# Altium integrated library Analog Devices Switches and Multiplexers Multiplexers (Muxes).IntLib: 481 symbols (part 11 of 23)
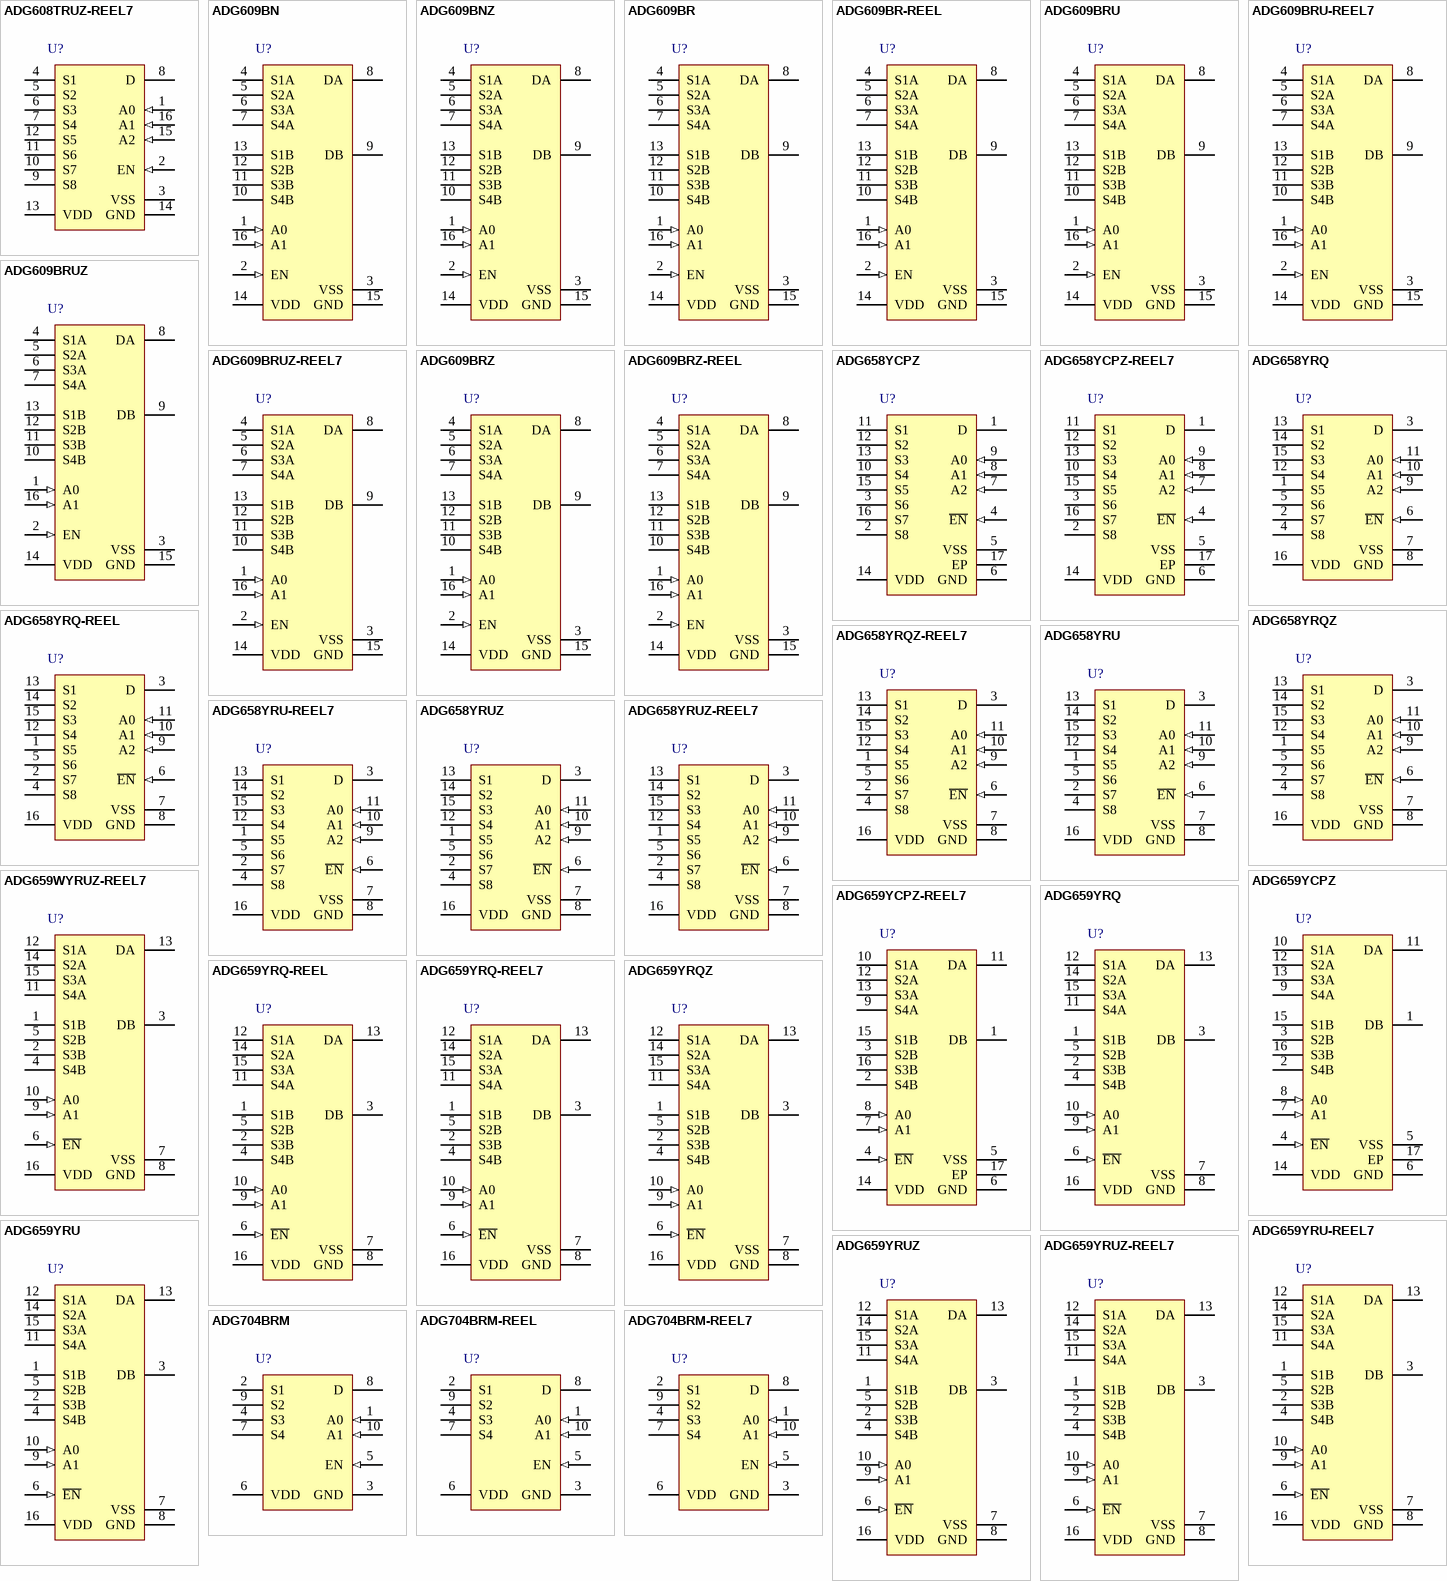
[diagram p27: symbols ADG608TRUZ-REEL7 to ADG704BRM-REEL7]

## ADG658YRUZ
designator U?
3 V / 5 V / +/-5 V CMOS 8-Channel Analog Multiplexer, -40 to 125 degC, 16-pin SOP (RU-16), Tube; Manufacturer: Analog Devices; PartNumber: ADG658YRUZ; Bandwidth (Hz): 210M; Max Analog Signal Range: Vss to Vdd; Ron (ohms): 45; Supply V Guar Performance: Dual_(+/-5V), Single_(+3.3V), Single_(+3V), Single_(+5V); t transition (s): 80n; DatasheetVersion: Rev. B; PackageVersion: Nov-02; PackageReference: RU-16; PackageDescription: 16-Pin Thin Shrink Small Outline Package, Body 5 x 4.4 mm, Pitch 0.65 mm; Supplier 1: Digi-Key; Supplier Part Number 1: ADG658YRUZ-ND; Supplier 2: Farnell; Supplier Part Number 2: 1438947; Supplier 3: Newark; Supplier Part Number 3: 19M8665; Supplier 4: Mouser; Supplier Part Number 4: 584-ADG658YRUZ; Packing: Tube; Mounting Technology: Surface Mount; Code_JEDEC: MO-153AB; ComponentLink1Description: Manufacturer URL; ComponentLink1URL: http://www.analog.com/en/index.html; ComponentLink2Description: Datasheet; ComponentLink2URL: http://www.analog.com/static/imported-files/data_sheets/ADG658_659.pdf; ComponentLink3Description: Package Specification; ComponentLink3URL: http:/www.analog.com/static/imported-files/packages/36244347913743854010197452789RU16.pdf
footprint ADI-RU-16_N (SOP, 16-Leads, Body 5x4.4mm, Pitch 0.65mm, IPC Medium Density)
footprint ADI-RU-16_L (SOP, 16-Leads, Body 5x4.4mm, Pitch 0.65mm, IPC High Density)
footprint ADI-RU-16_M (SOP, 16-Leads, Body 5x4.4mm, Pitch 0.65mm, IPC Low Density)
pins: 1 S5 "Source Terminal. May be an input or output.", 2 S7 "Source Terminal. May be an input or output.", 3 D "Drain Terminal. May be an input or output.", 4 S8 "Source Terminal. May be an input or output.", 5 S6 "Source Terminal. May be an input or output.", 6 ~{EN} (in) "Active Low Digital Input. When high, device is disabled and all switches are OFF. When low, AX logic inputs determine ON switch.", 7 VSS (power) "Most Negative Power Supply Potential.", 8 GND (power) "Ground (0 V) Reference.", 9 A2 (in) "Logic Control Input.", 10 A1 (in) "Logic Control Input.", 11 A0 (in) "Logic Control Input.", 12 S4 "Source Terminal. May be an input or output.", 13 S1 "Source Terminal. May be an input or output.", 14 S2 "Source Terminal. May be an input or output.", 15 S3 "Source Terminal. May be an input or output.", 16 VDD (power) "Most Positive Power Supply Potential."

## ADG658YRUZ-REEL7
designator U?
3 V / 5 V / +/-5 V CMOS 8-Channel Analog Multiplexer, -40 to 125 degC, 16-pin SOP (RU-16), Reel; Manufacturer: Analog Devices; PartNumber: ADG658YRUZ-REEL7; Bandwidth (Hz): 210M; Max Analog Signal Range: Vss to Vdd; Ron (ohms): 45; Supply V Guar Performance: Dual_(+/-5V), Single_(+3.3V), Single_(+3V), Single_(+5V); t transition (s): 80n; DatasheetVersion: Rev. B; PackageVersion: Nov-02; PackageReference: RU-16; PackageDescription: 16-Pin Thin Shrink Small Outline Package, Body 5 x 4.4 mm, Pitch 0.65 mm; Supplier 1: Digi-Key; Supplier Part Number 1: ADG658YRUZ-REEL7TR-ND; Supplier 2: Digi-Key; Supplier Part Number 2: ADG658YRUZ-REEL7CT-ND; Supplier 3: Digi-Key; Supplier Part Number 3: ADG658YRUZ-REEL7DKR-ND; Supplier 4: Newark; Supplier Part Number 4: 59K1459; Supplier 5: Mouser; Supplier Part Number 5: 584-ADG658YRUZ-R7; Packing: Reel; Mounting Technology: Surface Mount; Code_JEDEC: MO-153AB; ComponentLink1Description: Manufacturer URL; ComponentLink1URL: http://www.analog.com/en/index.html; ComponentLink2Description: Datasheet; ComponentLink2URL: http://www.analog.com/static/imported-files/data_sheets/ADG658_659.pdf; ComponentLink3Description: Package Specification; ComponentLink3URL: http:/www.analog.com/static/imported-files/packages/36244347913743854010197452789RU16.pdf
footprint ADI-RU-16_N (SOP, 16-Leads, Body 5x4.4mm, Pitch 0.65mm, IPC Medium Density)
footprint ADI-RU-16_L (SOP, 16-Leads, Body 5x4.4mm, Pitch 0.65mm, IPC High Density)
footprint ADI-RU-16_M (SOP, 16-Leads, Body 5x4.4mm, Pitch 0.65mm, IPC Low Density)
pins: 1 S5 "Source Terminal. May be an input or output.", 2 S7 "Source Terminal. May be an input or output.", 3 D "Drain Terminal. May be an input or output.", 4 S8 "Source Terminal. May be an input or output.", 5 S6 "Source Terminal. May be an input or output.", 6 ~{EN} (in) "Active Low Digital Input. When high, device is disabled and all switches are OFF. When low, AX logic inputs determine ON switch.", 7 VSS (power) "Most Negative Power Supply Potential.", 8 GND (power) "Ground (0 V) Reference.", 9 A2 (in) "Logic Control Input.", 10 A1 (in) "Logic Control Input.", 11 A0 (in) "Logic Control Input.", 12 S4 "Source Terminal. May be an input or output.", 13 S1 "Source Terminal. May be an input or output.", 14 S2 "Source Terminal. May be an input or output.", 15 S3 "Source Terminal. May be an input or output.", 16 VDD (power) "Most Positive Power Supply Potential."

## ADG659WYRUZ-REEL7
designator U?
3 V / 5 V / +/-5 V CMOS 4-Channel Analog Multiplexer, -40 to 125 degC, 16-pin SOP (RU-16), Reel; Manufacturer: Analog Devices; PartNumber: ADG659WYRUZ-REEL7; Bandwidth (Hz): 400M; Max Analog Signal Range: Vss to Vdd; Ron (ohms): 45; Supply V Guar Performance: Dual_(+/-5V), Single_(+3.3V), Single_(+3V), Single_(+5V); t transition (s): 80n; DatasheetVersion: Rev. B; PackageVersion: Nov-02; PackageReference: RU-16; PackageDescription: 16-Pin Thin Shrink Small Outline Package, Body 5 x 4.4 mm, Pitch 0.65 mm; Supplier 1: Digi-Key; Supplier Part Number 1: ADG659WYRUZ-REEL7TR-ND; Supplier 2: Digi-Key; Supplier Part Number 2: ADG659WYRUZ-REEL7CT-ND; Supplier 3: Digi-Key; Supplier Part Number 3: ADG659WYRUZ-REEL7DKR-ND; Supplier 4: Mouser; Supplier Part Number 4: 584-ADG659WYRUZ-R7; Packing: Reel; Mounting Technology: Surface Mount; Code_JEDEC: MO-153AB; ComponentLink1Description: Manufacturer URL; ComponentLink1URL: http://www.analog.com/en/index.html; ComponentLink2Description: Datasheet; ComponentLink2URL: http://www.analog.com/static/imported-files/data_sheets/ADG658_659.pdf; ComponentLink3Description: Package Specification; ComponentLink3URL: http:/www.analog.com/static/imported-files/packages/36244347913743854010197452789RU16.pdf
footprint ADI-RU-16_N (SOP, 16-Leads, Body 5x4.4mm, Pitch 0.65mm, IPC Medium Density)
footprint ADI-RU-16_L (SOP, 16-Leads, Body 5x4.4mm, Pitch 0.65mm, IPC High Density)
footprint ADI-RU-16_M (SOP, 16-Leads, Body 5x4.4mm, Pitch 0.65mm, IPC Low Density)
pins: 1 S1B "Source Terminal. May be an input or output.", 2 S3B "Source Terminal. May be an input or output.", 3 DB "Drain Terminal. May be an input or output.", 4 S4B "Source Terminal. May be an input or output.", 5 S2B "Source Terminal. May be an input or output.", 6 ~{EN} (in) "Active Low Digital Input. When high, device is disabled and all switches are OFF. When low, AX logic inputs determine ON switch.", 7 VSS (power) "Most Negative Power Supply Potential.", 8 GND (power) "Ground (0 V) Reference.", 9 A1 (in) "Logic Control Input.", 10 A0 (in) "Logic Control Input.", 11 S4A "Source Terminal. May be an input or output.", 12 S1A "Source Terminal. May be an input or output.", 13 DA "Drain Terminal. May be an input or output.", 14 S2A "Source Terminal. May be an input or output.", 15 S3A "Source Terminal. May be an input or output.", 16 VDD (power) "Most Positive Power Supply Potential."

## ADG659YCPZ
designator U?
3 V / 5 V / +/-5 V CMOS 4-Channel Analog Multiplexer, -40 to 85 degC, 16-pin QFN (CP-16-4), Tray; Manufacturer: Analog Devices; PartNumber: ADG659YCPZ; Bandwidth (Hz): 400M; Max Analog Signal Range: Vss to Vdd; Ron (ohms): 45; Supply V Guar Performance: Dual_(+/-5V), Single_(+3.3V), Single_(+3V), Single_(+5V); t transition (s): 80n; DatasheetVersion: Rev. B; PackageVersion: 010606-0, 01/2006; PackageReference: CP-16-4; PackageDescription: 16-Pin Lead Frame Chip Scale Package, Body 4 x 4 mm, Pitch 0.65 mm; Supplier 1: Digi-Key; Supplier Part Number 1: ADG659YCPZ-ND; Supplier 2: Newark; Supplier Part Number 2: 74R5857; Supplier 3: Mouser; Supplier Part Number 3: 584-ADG659YCPZ; Packing: Tray; Mounting Technology: Surface Mount; Code_JEDEC: MO-220-VGGC; ComponentLink1Description: Manufacturer URL; ComponentLink1URL: http://www.analog.com/en/index.html; ComponentLink2Description: Datasheet; ComponentLink2URL: http://www.analog.com/static/imported-files/data_sheets/ADG658_659.pdf; ComponentLink3Description: Package Specification; ComponentLink3URL: http://www.analog.com/static/imported-files/packages/46009454504174339653421710019CP_16_4.pdf
footprint CP-16-4_N (QFN, 16-Leads, Body 4x4mm, Pitch 0.65mm, Thermal Pad 2.1x2.1mm, IPC Medium Density)
footprint CP-16-4_L (QFN, 16-Leads, Body 4x4mm, Pitch 0.65mm, Thermal Pad 2.1x2.1mm, IPC High Density)
footprint CP-16-4_M (QFN, 16-Leads, Body 4x4mm, Pitch 0.65mm, Thermal Pad 2.1x2.1mm, IPC Low Density)
pins: 1 DB "Drain Terminal. May be an input or output.", 2 S4B "Source Terminal. May be an input or output", 3 S2B "Source Terminal. May be an input or output", 4 ~{EN} (in) "Active Low Digital Input. When high, device is disabled and all switches are OFF. When low, AX logic inputs determine ON switch.", 5 VSS (power) "Most Negative Power Supply Potential.", 6 GND (power) "Ground (0 V) Reference.", 7 A1 (in) "Logic Control Input", 8 A0 (in) "Logic Control Input", 9 S4A "Source Terminal. May be an input or output", 10 S1A "Source Terminal. May be an input or output", 11 DA "Drain Terminal. May be an input or output.", 12 S2A "Source Terminal. May be an input or output", 13 S3A "Source Terminal. May be an input or output", 14 VDD (power) "Most Positive Power Supply Potential.", 15 S1B "Source Terminal. May be an input or output", 16 S3B "Source Terminal. May be an input or output", 17 EP "Exposed pad."

## ADG659YCPZ-REEL7
designator U?
3 V / 5 V / +/-5 V CMOS 4-Channel Analog Multiplexer, -40 to 85 degC, 16-pin QFN (CP-16-4), Reel; Manufacturer: Analog Devices; PartNumber: ADG659YCPZ-REEL7; Bandwidth (Hz): 400M; Max Analog Signal Range: Vss to Vdd; Ron (ohms): 45; Supply V Guar Performance: Dual_(+/-5V), Single_(+3.3V), Single_(+3V), Single_(+5V); t transition (s): 80n; DatasheetVersion: Rev. B; PackageVersion: 010606-0, 01/2006; PackageReference: CP-16-4; PackageDescription: 16-Pin Lead Frame Chip Scale Package, Body 4 x 4 mm, Pitch 0.65 mm; Supplier 1: Digi-Key; Supplier Part Number 1: ADG659YCPZ-REEL7-ND; Supplier 2: Mouser; Supplier Part Number 2: 584-ADG659YCPZ-R7; Packing: Reel; Mounting Technology: Surface Mount; Code_JEDEC: MO-220-VGGC; ComponentLink1Description: Manufacturer URL; ComponentLink1URL: http://www.analog.com/en/index.html; ComponentLink2Description: Datasheet; ComponentLink2URL: http://www.analog.com/static/imported-files/data_sheets/ADG658_659.pdf; ComponentLink3Description: Package Specification; ComponentLink3URL: http://www.analog.com/static/imported-files/packages/46009454504174339653421710019CP_16_4.pdf
footprint CP-16-4_N (QFN, 16-Leads, Body 4x4mm, Pitch 0.65mm, Thermal Pad 2.1x2.1mm, IPC Medium Density)
footprint CP-16-4_L (QFN, 16-Leads, Body 4x4mm, Pitch 0.65mm, Thermal Pad 2.1x2.1mm, IPC High Density)
footprint CP-16-4_M (QFN, 16-Leads, Body 4x4mm, Pitch 0.65mm, Thermal Pad 2.1x2.1mm, IPC Low Density)
pins: 1 DB "Drain Terminal. May be an input or output.", 2 S4B "Source Terminal. May be an input or output", 3 S2B "Source Terminal. May be an input or output", 4 ~{EN} (in) "Active Low Digital Input. When high, device is disabled and all switches are OFF. When low, AX logic inputs determine ON switch.", 5 VSS (power) "Most Negative Power Supply Potential.", 6 GND (power) "Ground (0 V) Reference.", 7 A1 (in) "Logic Control Input", 8 A0 (in) "Logic Control Input", 9 S4A "Source Terminal. May be an input or output", 10 S1A "Source Terminal. May be an input or output", 11 DA "Drain Terminal. May be an input or output.", 12 S2A "Source Terminal. May be an input or output", 13 S3A "Source Terminal. May be an input or output", 14 VDD (power) "Most Positive Power Supply Potential.", 15 S1B "Source Terminal. May be an input or output", 16 S3B "Source Terminal. May be an input or output", 17 EP "Exposed pad."

## ADG659YRQ
designator U?
3 V / 5 V / +/-5 V CMOS 4-Channel Analog Multiplexer, -40 to 125 degC, 16-pin SOP (RQ-16), Tube; Manufacturer: Analog Devices; PartNumber: ADG659YRQ; Bandwidth (Hz): 400M; Max Analog Signal Range: Vss to Vdd; Ron (ohms): 45; Supply V Guar Performance: Dual_(+/-5V), Single_(+3.3V), Single_(+3V), Single_(+5V); t transition (s): 80n; DatasheetVersion: Rev. B; PackageVersion: Aug-05; PackageReference: RQ-16; PackageDescription: 16-Pin Shrink Small Outline Package, Body 4.9 x 3.9 mm, Pitch 0.64 mm; Supplier 1: Digi-Key; Supplier Part Number 1: ADG659YRQ-ND; Supplier 2: Mouser; Supplier Part Number 2: 584-ADG659YRQ; Packing: Tube; Mounting Technology: Surface Mount; Code_JEDEC: MO-137-AB; ComponentLink1Description: Manufacturer URL; ComponentLink1URL: http://www.analog.com/en/index.html; ComponentLink2Description: Datasheet; ComponentLink2URL: http://www.analog.com/static/imported-files/data_sheets/ADG658_659.pdf; ComponentLink3Description: Package Specification; ComponentLink3URL: http://www.analog.com/static/imported-files/packages/5595549651201762937RQ_16.pdf
footprint ADI-RQ-16_N (SOP, 16-Leads, Body 4.9x3.9mm, Pitch 0.64mm, IPC Medium Density)
footprint ADI-RQ-16_L (SOP, 16-Leads, Body 4.9x3.9mm, Pitch 0.64mm, IPC High Density)
footprint ADI-RQ-16_M (SOP, 16-Leads, Body 4.9x3.9mm, Pitch 0.64mm, IPC Low Density)
pins: 1 S1B "Source Terminal. May be an input or output.", 2 S3B "Source Terminal. May be an input or output.", 3 DB "Drain Terminal. May be an input or output.", 4 S4B "Source Terminal. May be an input or output.", 5 S2B "Source Terminal. May be an input or output.", 6 ~{EN} (in) "Active Low Digital Input. When high, device is disabled and all switches are OFF. When low, AX logic inputs determine ON switch.", 7 VSS (power) "Most Negative Power Supply Potential.", 8 GND (power) "Ground (0 V) Reference.", 9 A1 (in) "Logic Control Input.", 10 A0 (in) "Logic Control Input.", 11 S4A "Source Terminal. May be an input or output.", 12 S1A "Source Terminal. May be an input or output.", 13 DA "Drain Terminal. May be an input or output.", 14 S2A "Source Terminal. May be an input or output.", 15 S3A "Source Terminal. May be an input or output.", 16 VDD (power) "Most Positive Power Supply Potential."

## ADG659YRQ-REEL
designator U?
3 V / 5 V / +/-5 V CMOS 4-Channel Analog Multiplexer, -40 to 125 degC, 16-pin SOP (RQ-16), Reel; Manufacturer: Analog Devices; PartNumber: ADG659YRQ-REEL; Bandwidth (Hz): 400M; Max Analog Signal Range: Vss to Vdd; Ron (ohms): 45; Supply V Guar Performance: Dual_(+/-5V), Single_(+3.3V), Single_(+3V), Single_(+5V); t transition (s): 80n; DatasheetVersion: Rev. B; PackageVersion: Aug-05; PackageReference: RQ-16; PackageDescription: 16-Pin Shrink Small Outline Package, Body 4.9 x 3.9 mm, Pitch 0.64 mm; Supplier 1: Digi-Key; Supplier Part Number 1: ADG659YRQ-REELTR-ND; Supplier 2: Digi-Key; Supplier Part Number 2: ADG659YRQ-REELCT-ND; Supplier 3: Digi-Key; Supplier Part Number 3: ADG659YRQ-REELDKR-ND; Supplier 4: Mouser; Supplier Part Number 4: 584-ADG659YRQ-R; Packing: Reel; Mounting Technology: Surface Mount; Code_JEDEC: MO-137-AB; ComponentLink1Description: Manufacturer URL; ComponentLink1URL: http://www.analog.com/en/index.html; ComponentLink2Description: Datasheet; ComponentLink2URL: http://www.analog.com/static/imported-files/data_sheets/ADG658_659.pdf; ComponentLink3Description: Package Specification; ComponentLink3URL: http://www.analog.com/static/imported-files/packages/5595549651201762937RQ_16.pdf
footprint ADI-RQ-16_N (SOP, 16-Leads, Body 4.9x3.9mm, Pitch 0.64mm, IPC Medium Density)
footprint ADI-RQ-16_L (SOP, 16-Leads, Body 4.9x3.9mm, Pitch 0.64mm, IPC High Density)
footprint ADI-RQ-16_M (SOP, 16-Leads, Body 4.9x3.9mm, Pitch 0.64mm, IPC Low Density)
pins: 1 S1B "Source Terminal. May be an input or output.", 2 S3B "Source Terminal. May be an input or output.", 3 DB "Drain Terminal. May be an input or output.", 4 S4B "Source Terminal. May be an input or output.", 5 S2B "Source Terminal. May be an input or output.", 6 ~{EN} (in) "Active Low Digital Input. When high, device is disabled and all switches are OFF. When low, AX logic inputs determine ON switch.", 7 VSS (power) "Most Negative Power Supply Potential.", 8 GND (power) "Ground (0 V) Reference.", 9 A1 (in) "Logic Control Input.", 10 A0 (in) "Logic Control Input.", 11 S4A "Source Terminal. May be an input or output.", 12 S1A "Source Terminal. May be an input or output.", 13 DA "Drain Terminal. May be an input or output.", 14 S2A "Source Terminal. May be an input or output.", 15 S3A "Source Terminal. May be an input or output.", 16 VDD (power) "Most Positive Power Supply Potential."

## ADG659YRQ-REEL7
designator U?
3 V / 5 V / +/-5 V CMOS 4-Channel Analog Multiplexer, -40 to 125 degC, 16-pin SOP (RQ-16), Reel; Manufacturer: Analog Devices; PartNumber: ADG659YRQ-REEL7; Bandwidth (Hz): 400M; Max Analog Signal Range: Vss to Vdd; Ron (ohms): 45; Supply V Guar Performance: Dual_(+/-5V), Single_(+3.3V), Single_(+3V), Single_(+5V); t transition (s): 80n; DatasheetVersion: Rev. B; PackageVersion: Aug-05; PackageReference: RQ-16; PackageDescription: 16-Pin Shrink Small Outline Package, Body 4.9 x 3.9 mm, Pitch 0.64 mm; Supplier 1: Digi-Key; Supplier Part Number 1: ADG659YRQ-REEL7TR-ND; Supplier 2: Digi-Key; Supplier Part Number 2: ADG659YRQ-REEL7CT-ND; Supplier 3: Digi-Key; Supplier Part Number 3: ADG659YRQ-REEL7DKR-ND; Supplier 4: Mouser; Supplier Part Number 4: 584-ADG659YRQ-R7; Packing: Reel; Mounting Technology: Surface Mount; Code_JEDEC: MO-137-AB; ComponentLink1Description: Manufacturer URL; ComponentLink1URL: http://www.analog.com/en/index.html; ComponentLink2Description: Datasheet; ComponentLink2URL: http://www.analog.com/static/imported-files/data_sheets/ADG658_659.pdf; ComponentLink3Description: Package Specification; ComponentLink3URL: http://www.analog.com/static/imported-files/packages/5595549651201762937RQ_16.pdf
footprint ADI-RQ-16_N (SOP, 16-Leads, Body 4.9x3.9mm, Pitch 0.64mm, IPC Medium Density)
footprint ADI-RQ-16_L (SOP, 16-Leads, Body 4.9x3.9mm, Pitch 0.64mm, IPC High Density)
footprint ADI-RQ-16_M (SOP, 16-Leads, Body 4.9x3.9mm, Pitch 0.64mm, IPC Low Density)
pins: 1 S1B "Source Terminal. May be an input or output.", 2 S3B "Source Terminal. May be an input or output.", 3 DB "Drain Terminal. May be an input or output.", 4 S4B "Source Terminal. May be an input or output.", 5 S2B "Source Terminal. May be an input or output.", 6 ~{EN} (in) "Active Low Digital Input. When high, device is disabled and all switches are OFF. When low, AX logic inputs determine ON switch.", 7 VSS (power) "Most Negative Power Supply Potential.", 8 GND (power) "Ground (0 V) Reference.", 9 A1 (in) "Logic Control Input.", 10 A0 (in) "Logic Control Input.", 11 S4A "Source Terminal. May be an input or output.", 12 S1A "Source Terminal. May be an input or output.", 13 DA "Drain Terminal. May be an input or output.", 14 S2A "Source Terminal. May be an input or output.", 15 S3A "Source Terminal. May be an input or output.", 16 VDD (power) "Most Positive Power Supply Potential."

## ADG659YRQZ
designator U?
3 V / 5 V / +/-5 V CMOS 4-Channel Analog Multiplexer, -40 to 125 degC, 16-pin SOP (RQ-16), Tube; Manufacturer: Analog Devices; PartNumber: ADG659YRQZ; Bandwidth (Hz): 400M; Max Analog Signal Range: Vss to Vdd; Ron (ohms): 45; Supply V Guar Performance: Dual_(+/-5V), Single_(+3.3V), Single_(+3V), Single_(+5V); t transition (s): 80n; DatasheetVersion: Rev. B; PackageVersion: Aug-05; PackageReference: RQ-16; PackageDescription: 16-Pin Shrink Small Outline Package, Body 4.9 x 3.9 mm, Pitch 0.64 mm; Supplier 1: Digi-Key; Supplier Part Number 1: ADG659YRQZ-ND; Supplier 2: Newark; Supplier Part Number 2: 12M7824; Supplier 3: Mouser; Supplier Part Number 3: 584-ADG659YRQZ; Packing: Tube; Mounting Technology: Surface Mount; Code_JEDEC: MO-137-AB; ComponentLink1Description: Manufacturer URL; ComponentLink1URL: http://www.analog.com/en/index.html; ComponentLink2Description: Datasheet; ComponentLink2URL: http://www.analog.com/static/imported-files/data_sheets/ADG658_659.pdf; ComponentLink3Description: Package Specification; ComponentLink3URL: http://www.analog.com/static/imported-files/packages/5595549651201762937RQ_16.pdf
footprint ADI-RQ-16_N (SOP, 16-Leads, Body 4.9x3.9mm, Pitch 0.64mm, IPC Medium Density)
footprint ADI-RQ-16_L (SOP, 16-Leads, Body 4.9x3.9mm, Pitch 0.64mm, IPC High Density)
footprint ADI-RQ-16_M (SOP, 16-Leads, Body 4.9x3.9mm, Pitch 0.64mm, IPC Low Density)
pins: 1 S1B "Source Terminal. May be an input or output.", 2 S3B "Source Terminal. May be an input or output.", 3 DB "Drain Terminal. May be an input or output.", 4 S4B "Source Terminal. May be an input or output.", 5 S2B "Source Terminal. May be an input or output.", 6 ~{EN} (in) "Active Low Digital Input. When high, device is disabled and all switches are OFF. When low, AX logic inputs determine ON switch.", 7 VSS (power) "Most Negative Power Supply Potential.", 8 GND (power) "Ground (0 V) Reference.", 9 A1 (in) "Logic Control Input.", 10 A0 (in) "Logic Control Input.", 11 S4A "Source Terminal. May be an input or output.", 12 S1A "Source Terminal. May be an input or output.", 13 DA "Drain Terminal. May be an input or output.", 14 S2A "Source Terminal. May be an input or output.", 15 S3A "Source Terminal. May be an input or output.", 16 VDD (power) "Most Positive Power Supply Potential."

## ADG659YRU
designator U?
3 V / 5 V / +/-5 V CMOS 4-Channel Analog Multiplexer, -40 to 125 degC, 16-pin SOP (RU-16), Tube; Manufacturer: Analog Devices; PartNumber: ADG659YRU; Bandwidth (Hz): 400M; Max Analog Signal Range: Vss to Vdd; Ron (ohms): 45; Supply V Guar Performance: Dual_(+/-5V), Single_(+3.3V), Single_(+3V), Single_(+5V); t transition (s): 80n; DatasheetVersion: Rev. B; PackageVersion: Nov-02; PackageReference: RU-16; PackageDescription: 16-Pin Thin Shrink Small Outline Package, Body 5 x 4.4 mm, Pitch 0.65 mm; Supplier 1: Digi-Key; Supplier Part Number 1: ADG659YRU-ND; Supplier 2: Mouser; Supplier Part Number 2: 584-ADG659YRU; Packing: Tube; Mounting Technology: Surface Mount; Code_JEDEC: MO-153AB; ComponentLink1Description: Manufacturer URL; ComponentLink1URL: http://www.analog.com/en/index.html; ComponentLink2Description: Datasheet; ComponentLink2URL: http://www.analog.com/static/imported-files/data_sheets/ADG658_659.pdf; ComponentLink3Description: Package Specification; ComponentLink3URL: http:/www.analog.com/static/imported-files/packages/36244347913743854010197452789RU16.pdf
footprint ADI-RU-16_N (SOP, 16-Leads, Body 5x4.4mm, Pitch 0.65mm, IPC Medium Density)
footprint ADI-RU-16_L (SOP, 16-Leads, Body 5x4.4mm, Pitch 0.65mm, IPC High Density)
footprint ADI-RU-16_M (SOP, 16-Leads, Body 5x4.4mm, Pitch 0.65mm, IPC Low Density)
pins: 1 S1B "Source Terminal. May be an input or output.", 2 S3B "Source Terminal. May be an input or output.", 3 DB "Drain Terminal. May be an input or output.", 4 S4B "Source Terminal. May be an input or output.", 5 S2B "Source Terminal. May be an input or output.", 6 ~{EN} (in) "Active Low Digital Input. When high, device is disabled and all switches are OFF. When low, AX logic inputs determine ON switch.", 7 VSS (power) "Most Negative Power Supply Potential.", 8 GND (power) "Ground (0 V) Reference.", 9 A1 (in) "Logic Control Input.", 10 A0 (in) "Logic Control Input.", 11 S4A "Source Terminal. May be an input or output.", 12 S1A "Source Terminal. May be an input or output.", 13 DA "Drain Terminal. May be an input or output.", 14 S2A "Source Terminal. May be an input or output.", 15 S3A "Source Terminal. May be an input or output.", 16 VDD (power) "Most Positive Power Supply Potential."

## ADG659YRU-REEL7
designator U?
3 V / 5 V / +/-5 V CMOS 4-Channel Analog Multiplexer, -40 to 125 degC, 16-pin SOP (RU-16), Reel; Manufacturer: Analog Devices; PartNumber: ADG659YRU-REEL7; Bandwidth (Hz): 400M; Max Analog Signal Range: Vss to Vdd; Ron (ohms): 45; Supply V Guar Performance: Dual_(+/-5V), Single_(+3.3V), Single_(+3V), Single_(+5V); t transition (s): 80n; DatasheetVersion: Rev. B; PackageVersion: Nov-02; PackageReference: RU-16; PackageDescription: 16-Pin Thin Shrink Small Outline Package, Body 5 x 4.4 mm, Pitch 0.65 mm; Supplier 1: Digi-Key; Supplier Part Number 1: ADG659YRU-REEL7-ND; Packing: Reel; Mounting Technology: Surface Mount; Code_JEDEC: MO-153AB; ComponentLink1Description: Manufacturer URL; ComponentLink1URL: http://www.analog.com/en/index.html; ComponentLink2Description: Datasheet; ComponentLink2URL: http://www.analog.com/static/imported-files/data_sheets/ADG658_659.pdf; ComponentLink3Description: Package Specification; ComponentLink3URL: http:/www.analog.com/static/imported-files/packages/36244347913743854010197452789RU16.pdf
footprint ADI-RU-16_N (SOP, 16-Leads, Body 5x4.4mm, Pitch 0.65mm, IPC Medium Density)
footprint ADI-RU-16_L (SOP, 16-Leads, Body 5x4.4mm, Pitch 0.65mm, IPC High Density)
footprint ADI-RU-16_M (SOP, 16-Leads, Body 5x4.4mm, Pitch 0.65mm, IPC Low Density)
pins: 1 S1B "Source Terminal. May be an input or output.", 2 S3B "Source Terminal. May be an input or output.", 3 DB "Drain Terminal. May be an input or output.", 4 S4B "Source Terminal. May be an input or output.", 5 S2B "Source Terminal. May be an input or output.", 6 ~{EN} (in) "Active Low Digital Input. When high, device is disabled and all switches are OFF. When low, AX logic inputs determine ON switch.", 7 VSS (power) "Most Negative Power Supply Potential.", 8 GND (power) "Ground (0 V) Reference.", 9 A1 (in) "Logic Control Input.", 10 A0 (in) "Logic Control Input.", 11 S4A "Source Terminal. May be an input or output.", 12 S1A "Source Terminal. May be an input or output.", 13 DA "Drain Terminal. May be an input or output.", 14 S2A "Source Terminal. May be an input or output.", 15 S3A "Source Terminal. May be an input or output.", 16 VDD (power) "Most Positive Power Supply Potential."

## ADG659YRUZ
designator U?
3 V / 5 V / +/-5 V CMOS 4-Channel Analog Multiplexer, -40 to 125 degC, 16-pin SOP (RU-16), Tube; Manufacturer: Analog Devices; PartNumber: ADG659YRUZ; Bandwidth (Hz): 400M; Max Analog Signal Range: Vss to Vdd; Ron (ohms): 45; Supply V Guar Performance: Dual_(+/-5V), Single_(+3.3V), Single_(+3V), Single_(+5V); t transition (s): 80n; DatasheetVersion: Rev. B; PackageVersion: Nov-02; PackageReference: RU-16; PackageDescription: 16-Pin Thin Shrink Small Outline Package, Body 5 x 4.4 mm, Pitch 0.65 mm; Supplier 1: Digi-Key; Supplier Part Number 1: ADG659YRUZ-ND; Supplier 2: Farnell; Supplier Part Number 2: 1438948; Supplier 3: Newark; Supplier Part Number 3: 19M8666; Supplier 4: Mouser; Supplier Part Number 4: 584-ADG659YRUZ; Packing: Tube; Mounting Technology: Surface Mount; Code_JEDEC: MO-153AB; ComponentLink1Description: Manufacturer URL; ComponentLink1URL: http://www.analog.com/en/index.html; ComponentLink2Description: Datasheet; ComponentLink2URL: http://www.analog.com/static/imported-files/data_sheets/ADG658_659.pdf; ComponentLink3Description: Package Specification; ComponentLink3URL: http:/www.analog.com/static/imported-files/packages/36244347913743854010197452789RU16.pdf
footprint ADI-RU-16_N (SOP, 16-Leads, Body 5x4.4mm, Pitch 0.65mm, IPC Medium Density)
footprint ADI-RU-16_L (SOP, 16-Leads, Body 5x4.4mm, Pitch 0.65mm, IPC High Density)
footprint ADI-RU-16_M (SOP, 16-Leads, Body 5x4.4mm, Pitch 0.65mm, IPC Low Density)
pins: 1 S1B "Source Terminal. May be an input or output.", 2 S3B "Source Terminal. May be an input or output.", 3 DB "Drain Terminal. May be an input or output.", 4 S4B "Source Terminal. May be an input or output.", 5 S2B "Source Terminal. May be an input or output.", 6 ~{EN} (in) "Active Low Digital Input. When high, device is disabled and all switches are OFF. When low, AX logic inputs determine ON switch.", 7 VSS (power) "Most Negative Power Supply Potential.", 8 GND (power) "Ground (0 V) Reference.", 9 A1 (in) "Logic Control Input.", 10 A0 (in) "Logic Control Input.", 11 S4A "Source Terminal. May be an input or output.", 12 S1A "Source Terminal. May be an input or output.", 13 DA "Drain Terminal. May be an input or output.", 14 S2A "Source Terminal. May be an input or output.", 15 S3A "Source Terminal. May be an input or output.", 16 VDD (power) "Most Positive Power Supply Potential."

## ADG659YRUZ-REEL7
designator U?
3 V / 5 V / +/-5 V CMOS 4-Channel Analog Multiplexer, -40 to 125 degC, 16-pin SOP (RU-16), Reel; Manufacturer: Analog Devices; PartNumber: ADG659YRUZ-REEL7; Bandwidth (Hz): 400M; Max Analog Signal Range: Vss to Vdd; Ron (ohms): 45; Supply V Guar Performance: Dual_(+/-5V), Single_(+3.3V), Single_(+3V), Single_(+5V); t transition (s): 80n; DatasheetVersion: Rev. B; PackageVersion: Nov-02; PackageReference: RU-16; PackageDescription: 16-Pin Thin Shrink Small Outline Package, Body 5 x 4.4 mm, Pitch 0.65 mm; Supplier 1: Digi-Key; Supplier Part Number 1: ADG659YRUZ-REEL7TR-ND; Supplier 2: Digi-Key; Supplier Part Number 2: ADG659YRUZ-REEL7CT-ND; Supplier 3: Digi-Key; Supplier Part Number 3: ADG659YRUZ-REEL7DKR-ND; Supplier 4: Mouser; Supplier Part Number 4: 584-ADG659YRUZ-R7; Packing: Reel; Mounting Technology: Surface Mount; Code_JEDEC: MO-153AB; ComponentLink1Description: Manufacturer URL; ComponentLink1URL: http://www.analog.com/en/index.html; ComponentLink2Description: Datasheet; ComponentLink2URL: http://www.analog.com/static/imported-files/data_sheets/ADG658_659.pdf; ComponentLink3Description: Package Specification; ComponentLink3URL: http:/www.analog.com/static/imported-files/packages/36244347913743854010197452789RU16.pdf
footprint ADI-RU-16_N (SOP, 16-Leads, Body 5x4.4mm, Pitch 0.65mm, IPC Medium Density)
footprint ADI-RU-16_L (SOP, 16-Leads, Body 5x4.4mm, Pitch 0.65mm, IPC High Density)
footprint ADI-RU-16_M (SOP, 16-Leads, Body 5x4.4mm, Pitch 0.65mm, IPC Low Density)
pins: 1 S1B "Source Terminal. May be an input or output.", 2 S3B "Source Terminal. May be an input or output.", 3 DB "Drain Terminal. May be an input or output.", 4 S4B "Source Terminal. May be an input or output.", 5 S2B "Source Terminal. May be an input or output.", 6 ~{EN} (in) "Active Low Digital Input. When high, device is disabled and all switches are OFF. When low, AX logic inputs determine ON switch.", 7 VSS (power) "Most Negative Power Supply Potential.", 8 GND (power) "Ground (0 V) Reference.", 9 A1 (in) "Logic Control Input.", 10 A0 (in) "Logic Control Input.", 11 S4A "Source Terminal. May be an input or output.", 12 S1A "Source Terminal. May be an input or output.", 13 DA "Drain Terminal. May be an input or output.", 14 S2A "Source Terminal. May be an input or output.", 15 S3A "Source Terminal. May be an input or output.", 16 VDD (power) "Most Positive Power Supply Potential."

## ADG704BRM
designator U?
CMOS Low Voltage 4 Ohm, 4-Channel Multiplexer, -40 to 85 degC, 10-pin SOP (RM-10), Tube; Manufacturer: Analog Devices; PartNumber: ADG704BRM; Bandwidth (Hz): 200M; Max Analog Signal Range: 0 to Vdd; Ron (ohms): 4; Supply V Guar Performance: Single_(+3.3V), Single_(+3V), Single_(+5V); DatasheetVersion: Rev. A; PackageVersion: Aug-05; PackageReference: RM-10; PackageDescription: 10-Pin Mini Small Outline Package, Body 3 x 3 mm, Pitch 0.5 mm; Supplier 1: Digi-Key; Supplier Part Number 1: ADG704BRM-ND; Supplier 2: Newark; Supplier Part Number 2: 48F6096; Supplier 3: Mouser; Supplier Part Number 3: 584-ADG704BRM; Packing: Tube; Mounting Technology: Surface Mount; Code_JEDEC: MO-187-BA; ComponentLink1Description: Manufacturer URL; ComponentLink1URL: http://www.analog.com/en/index.html; ComponentLink2Description: Datasheet; ComponentLink2URL: http://www.analog.com/static/imported-files/data_sheets/ADG704.pdf; ComponentLink3Description: Package Specification; ComponentLink3URL: http://www.analog.com/static/imported-files/packages/PKG_PDF/MSOP%28RM%29/RM_10.pdf
footprint ADI-RM-10_N (SOP, 10-Leads, Body 3x3mm, Pitch 0.5mm, IPC Medium Density)
footprint ADI-RM-10_L (SOP, 10-Leads, Body 3x3mm, Pitch 0.5mm, IPC High Density)
footprint ADI-RM-10_M (SOP, 10-Leads, Body 3x3mm, Pitch 0.5mm, IPC Low Density)
pins: 1 A0 (in) "Logic control input.", 2 S1 "Source terminal. May be an input or output.", 3 GND (power) "Ground (0 V) reference.", 4 S3 "Source terminal. May be an input or output.", 5 EN (in) "Logic control input.", 6 VDD (power) "Most positive power supply potential.", 7 S4 "Source terminal. May be an input or output.", 8 D "Drain terminal. May be an input or output.", 9 S2 "Source terminal. May be an input or output.", 10 A1 (in) "Logic control input."

## ADG704BRM-REEL
designator U?
CMOS Low Voltage 4 Ohm, 4-Channel Multiplexer, -40 to 85 degC, 10-pin SOP (RM-10), Reel; Manufacturer: Analog Devices; PartNumber: ADG704BRM-REEL; Bandwidth (Hz): 200M; Max Analog Signal Range: 0 to Vdd; Ron (ohms): 4; Supply V Guar Performance: Single_(+3.3V), Single_(+3V), Single_(+5V); DatasheetVersion: Rev. A; PackageVersion: Aug-05; PackageReference: RM-10; PackageDescription: 10-Pin Mini Small Outline Package, Body 3 x 3 mm, Pitch 0.5 mm; Supplier 1: Digi-Key; Supplier Part Number 1: ADG704BRM-REEL-ND; Supplier 2: Newark; Supplier Part Number 2: 09B7139; Supplier 3: Mouser; Supplier Part Number 3: 584-ADG704BRM-R; Packing: Reel; Mounting Technology: Surface Mount; Code_JEDEC: MO-187-BA; ComponentLink1Description: Manufacturer URL; ComponentLink1URL: http://www.analog.com/en/index.html; ComponentLink2Description: Datasheet; ComponentLink2URL: http://www.analog.com/static/imported-files/data_sheets/ADG704.pdf; ComponentLink3Description: Package Specification; ComponentLink3URL: http://www.analog.com/static/imported-files/packages/PKG_PDF/MSOP%28RM%29/RM_10.pdf
footprint ADI-RM-10_N (SOP, 10-Leads, Body 3x3mm, Pitch 0.5mm, IPC Medium Density)
footprint ADI-RM-10_L (SOP, 10-Leads, Body 3x3mm, Pitch 0.5mm, IPC High Density)
footprint ADI-RM-10_M (SOP, 10-Leads, Body 3x3mm, Pitch 0.5mm, IPC Low Density)
pins: 1 A0 (in) "Logic control input.", 2 S1 "Source terminal. May be an input or output.", 3 GND (power) "Ground (0 V) reference.", 4 S3 "Source terminal. May be an input or output.", 5 EN (in) "Logic control input.", 6 VDD (power) "Most positive power supply potential.", 7 S4 "Source terminal. May be an input or output.", 8 D "Drain terminal. May be an input or output.", 9 S2 "Source terminal. May be an input or output.", 10 A1 (in) "Logic control input."

## ADG704BRM-REEL7
designator U?
CMOS Low Voltage 4 Ohm, 4-Channel Multiplexer, -40 to 85 degC, 10-pin SOP (RM-10), Reel; Manufacturer: Analog Devices; PartNumber: ADG704BRM-REEL7; Bandwidth (Hz): 200M; Max Analog Signal Range: 0 to Vdd; Ron (ohms): 4; Supply V Guar Performance: Single_(+3.3V), Single_(+3V), Single_(+5V); DatasheetVersion: Rev. A; PackageVersion: Aug-05; PackageReference: RM-10; PackageDescription: 10-Pin Mini Small Outline Package, Body 3 x 3 mm, Pitch 0.5 mm; Supplier 1: Digi-Key; Supplier Part Number 1: ADG704BRM-REEL7TR-ND; Supplier 2: Digi-Key; Supplier Part Number 2: ADG704BRM-REEL7CT-ND; Supplier 3: Newark; Supplier Part Number 3: 09B7140; Supplier 4: Mouser; Supplier Part Number 4: 584-ADG704BRM-R7; Packing: Reel; Mounting Technology: Surface Mount; Code_JEDEC: MO-187-BA; ComponentLink1Description: Manufacturer URL; ComponentLink1URL: http://www.analog.com/en/index.html; ComponentLink2Description: Datasheet; ComponentLink2URL: http://www.analog.com/static/imported-files/data_sheets/ADG704.pdf; ComponentLink3Description: Package Specification; ComponentLink3URL: http://www.analog.com/static/imported-files/packages/PKG_PDF/MSOP%28RM%29/RM_10.pdf
footprint ADI-RM-10_N (SOP, 10-Leads, Body 3x3mm, Pitch 0.5mm, IPC Medium Density)
footprint ADI-RM-10_L (SOP, 10-Leads, Body 3x3mm, Pitch 0.5mm, IPC High Density)
footprint ADI-RM-10_M (SOP, 10-Leads, Body 3x3mm, Pitch 0.5mm, IPC Low Density)
pins: 1 A0 (in) "Logic control input.", 2 S1 "Source terminal. May be an input or output.", 3 GND (power) "Ground (0 V) reference.", 4 S3 "Source terminal. May be an input or output.", 5 EN (in) "Logic control input.", 6 VDD (power) "Most positive power supply potential.", 7 S4 "Source terminal. May be an input or output.", 8 D "Drain terminal. May be an input or output.", 9 S2 "Source terminal. May be an input or output.", 10 A1 (in) "Logic control input."

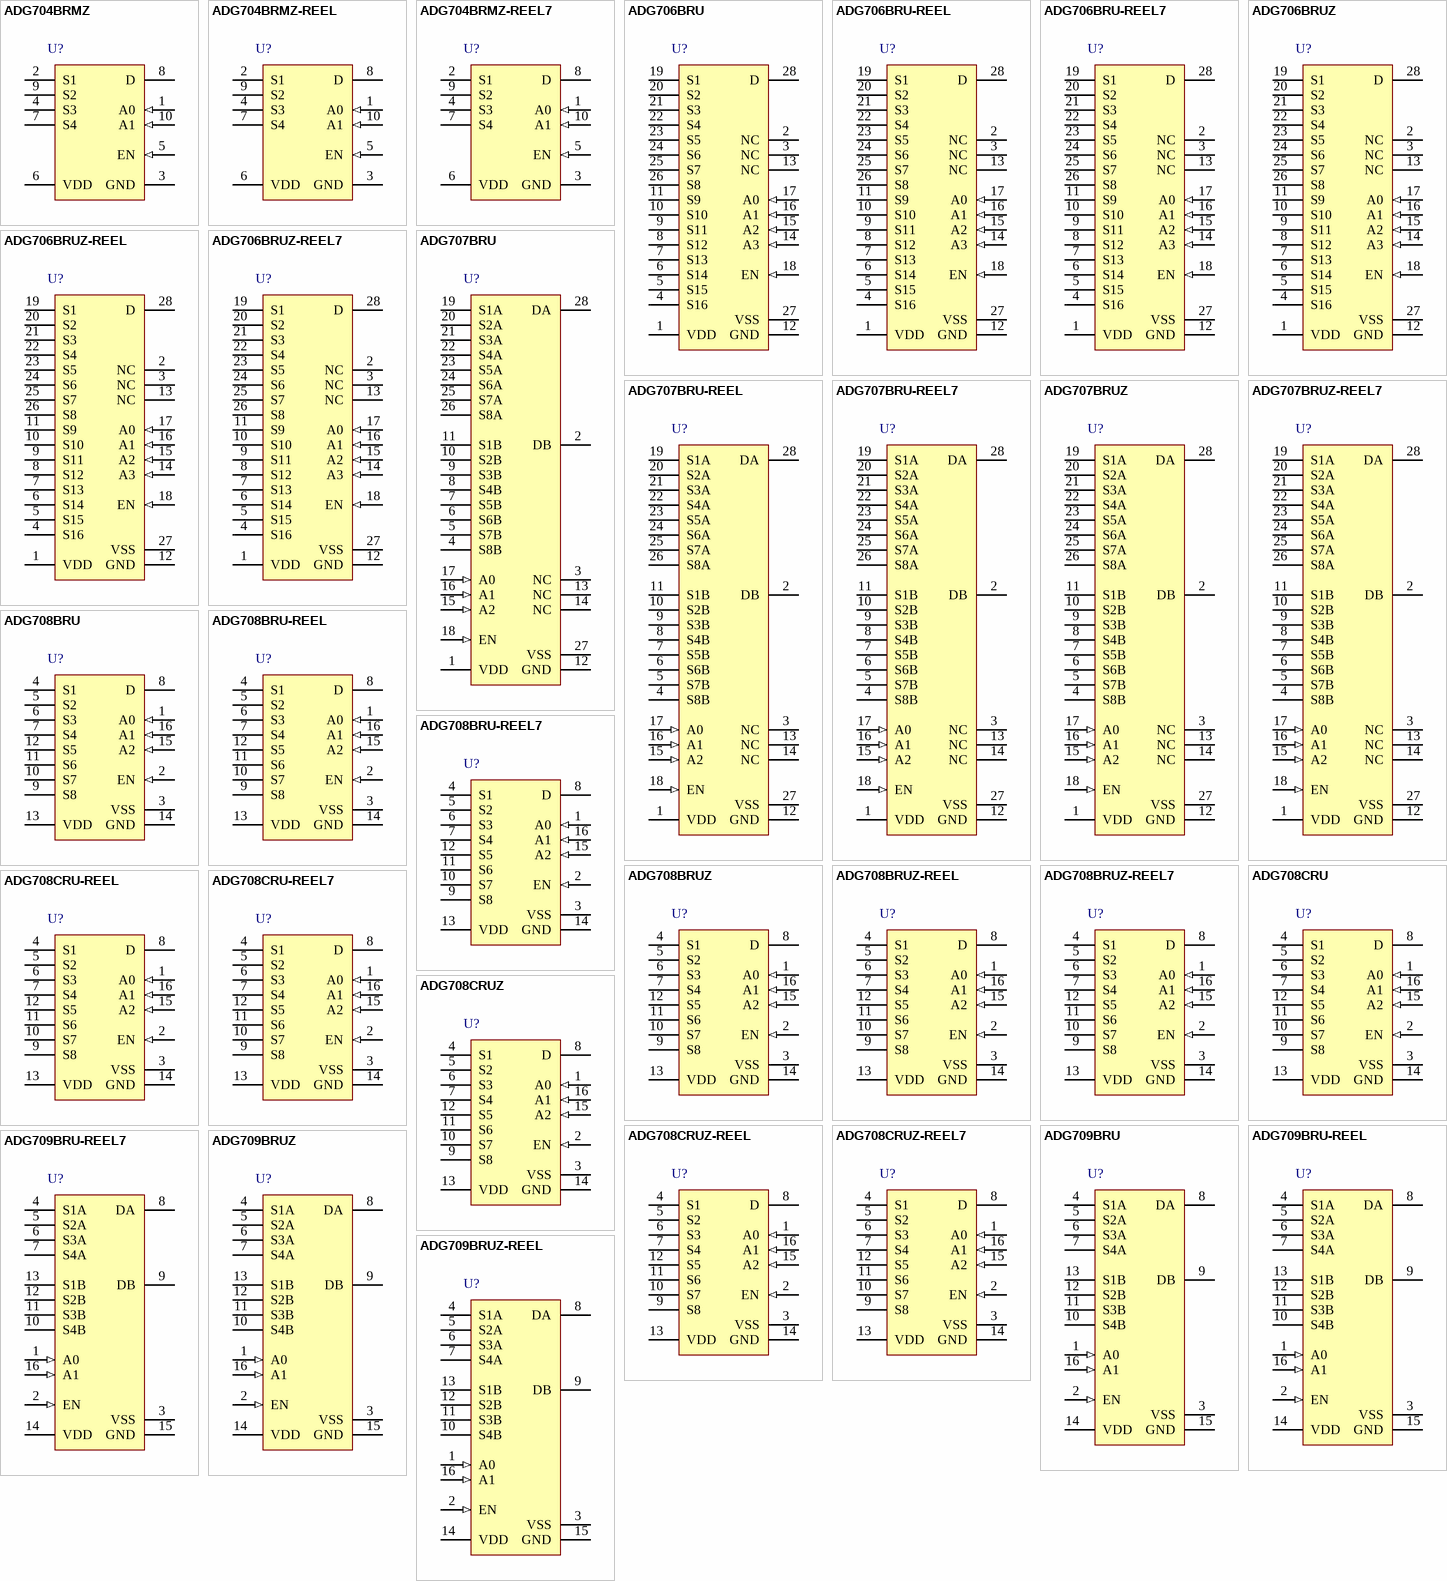
[diagram p9: symbols ADG704BRMZ to ADG709BRUZ-REEL]

## ADG704BRMZ
designator U?
CMOS Low Voltage 4 Ohm, 4-Channel Multiplexer, -40 to 85 degC, 10-pin SOP (RM-10), Tube; Manufacturer: Analog Devices; PartNumber: ADG704BRMZ; Bandwidth (Hz): 200M; Max Analog Signal Range: 0 to Vdd; Ron (ohms): 4; Supply V Guar Performance: Single_(+3.3V), Single_(+3V), Single_(+5V); DatasheetVersion: Rev. A; PackageVersion: Aug-05; PackageReference: RM-10; PackageDescription: 10-Pin Mini Small Outline Package, Body 3 x 3 mm, Pitch 0.5 mm; Supplier 1: Digi-Key; Supplier Part Number 1: ADG704BRMZ-ND; Supplier 2: Farnell; Supplier Part Number 2: 9425756; Supplier 3: Newark; Supplier Part Number 3: 59K1493; Supplier 4: Mouser; Supplier Part Number 4: 584-ADG704BRMZ; Packing: Tube; Mounting Technology: Surface Mount; Code_JEDEC: MO-187-BA; ComponentLink1Description: Manufacturer URL; ComponentLink1URL: http://www.analog.com/en/index.html; ComponentLink2Description: Datasheet; ComponentLink2URL: http://www.analog.com/static/imported-files/data_sheets/ADG704.pdf; ComponentLink3Description: Package Specification; ComponentLink3URL: http://www.analog.com/static/imported-files/packages/PKG_PDF/MSOP%28RM%29/RM_10.pdf
footprint ADI-RM-10_N (SOP, 10-Leads, Body 3x3mm, Pitch 0.5mm, IPC Medium Density)
footprint ADI-RM-10_L (SOP, 10-Leads, Body 3x3mm, Pitch 0.5mm, IPC High Density)
footprint ADI-RM-10_M (SOP, 10-Leads, Body 3x3mm, Pitch 0.5mm, IPC Low Density)
pins: 1 A0 (in) "Logic control input.", 2 S1 "Source terminal. May be an input or output.", 3 GND (power) "Ground (0 V) reference.", 4 S3 "Source terminal. May be an input or output.", 5 EN (in) "Logic control input.", 6 VDD (power) "Most positive power supply potential.", 7 S4 "Source terminal. May be an input or output.", 8 D "Drain terminal. May be an input or output.", 9 S2 "Source terminal. May be an input or output.", 10 A1 (in) "Logic control input."

## ADG704BRMZ-REEL
designator U?
CMOS Low Voltage 4 Ohm, 4-Channel Multiplexer, -40 to 85 degC, 10-pin SOP (RM-10), Reel; Manufacturer: Analog Devices; PartNumber: ADG704BRMZ-REEL; Bandwidth (Hz): 200M; Max Analog Signal Range: 0 to Vdd; Ron (ohms): 4; Supply V Guar Performance: Single_(+3.3V), Single_(+3V), Single_(+5V); DatasheetVersion: Rev. A; PackageVersion: Aug-05; PackageReference: RM-10; PackageDescription: 10-Pin Mini Small Outline Package, Body 3 x 3 mm, Pitch 0.5 mm; Supplier 1: Digi-Key; Supplier Part Number 1: ADG704BRMZ-REEL-ND; Supplier 2: Newark; Supplier Part Number 2: 59K1494; Supplier 3: Mouser; Supplier Part Number 3: 584-ADG704BRMZ-R; Packing: Reel; Mounting Technology: Surface Mount; Code_JEDEC: MO-187-BA; ComponentLink1Description: Manufacturer URL; ComponentLink1URL: http://www.analog.com/en/index.html; ComponentLink2Description: Datasheet; ComponentLink2URL: http://www.analog.com/static/imported-files/data_sheets/ADG704.pdf; ComponentLink3Description: Package Specification; ComponentLink3URL: http://www.analog.com/static/imported-files/packages/PKG_PDF/MSOP%28RM%29/RM_10.pdf
footprint ADI-RM-10_N (SOP, 10-Leads, Body 3x3mm, Pitch 0.5mm, IPC Medium Density)
footprint ADI-RM-10_L (SOP, 10-Leads, Body 3x3mm, Pitch 0.5mm, IPC High Density)
footprint ADI-RM-10_M (SOP, 10-Leads, Body 3x3mm, Pitch 0.5mm, IPC Low Density)
pins: 1 A0 (in) "Logic control input.", 2 S1 "Source terminal. May be an input or output.", 3 GND (power) "Ground (0 V) reference.", 4 S3 "Source terminal. May be an input or output.", 5 EN (in) "Logic control input.", 6 VDD (power) "Most positive power supply potential.", 7 S4 "Source terminal. May be an input or output.", 8 D "Drain terminal. May be an input or output.", 9 S2 "Source terminal. May be an input or output.", 10 A1 (in) "Logic control input."

## ADG704BRMZ-REEL7
designator U?
CMOS Low Voltage 4 Ohm, 4-Channel Multiplexer, -40 to 85 degC, 10-pin SOP (RM-10), Reel; Manufacturer: Analog Devices; PartNumber: ADG704BRMZ-REEL7; Bandwidth (Hz): 200M; Max Analog Signal Range: 0 to Vdd; Ron (ohms): 4; Supply V Guar Performance: Single_(+3.3V), Single_(+3V), Single_(+5V); DatasheetVersion: Rev. A; PackageVersion: Aug-05; PackageReference: RM-10; PackageDescription: 10-Pin Mini Small Outline Package, Body 3 x 3 mm, Pitch 0.5 mm; Supplier 1: Digi-Key; Supplier Part Number 1: ADG704BRMZ-REEL7TR-ND; Supplier 2: Digi-Key; Supplier Part Number 2: ADG704BRMZ-REEL7CT-ND; Supplier 3: Digi-Key; Supplier Part Number 3: ADG704BRMZ-REEL7DKR-ND; Supplier 4: Farnell; Supplier Part Number 4: 1424344; Supplier 5: Newark; Supplier Part Number 5: 59K1495; Supplier 6: Mouser; Supplier Part Number 6: 584-ADG704BRMZ-R7; Packing: Reel; Mounting Technology: Surface Mount; Code_JEDEC: MO-187-BA; ComponentLink1Description: Manufacturer URL; ComponentLink1URL: http://www.analog.com/en/index.html; ComponentLink2Description: Datasheet; ComponentLink2URL: http://www.analog.com/static/imported-files/data_sheets/ADG704.pdf; ComponentLink3Description: Package Specification; ComponentLink3URL: http://www.analog.com/static/imported-files/packages/PKG_PDF/MSOP%28RM%29/RM_10.pdf
footprint ADI-RM-10_N (SOP, 10-Leads, Body 3x3mm, Pitch 0.5mm, IPC Medium Density)
footprint ADI-RM-10_L (SOP, 10-Leads, Body 3x3mm, Pitch 0.5mm, IPC High Density)
footprint ADI-RM-10_M (SOP, 10-Leads, Body 3x3mm, Pitch 0.5mm, IPC Low Density)
pins: 1 A0 (in) "Logic control input.", 2 S1 "Source terminal. May be an input or output.", 3 GND (power) "Ground (0 V) reference.", 4 S3 "Source terminal. May be an input or output.", 5 EN (in) "Logic control input.", 6 VDD (power) "Most positive power supply potential.", 7 S4 "Source terminal. May be an input or output.", 8 D "Drain terminal. May be an input or output.", 9 S2 "Source terminal. May be an input or output.", 10 A1 (in) "Logic control input."

## ADG706BRU
designator U?
1.8 to 5.5 V / 2.5 V, CMOS Low-Voltage 2.5 Ohm, 16-Channel Multiplexer, -40 to 85 degC, 28-pin SOP (RU-28), Tube; Manufacturer: Analog Devices; PartNumber: ADG706BRU; Bandwidth (Hz): 25M; Max Analog Signal Range: Vss to Vdd; Ron (ohms): 2.5; Supply V Guar Performance: Dual_(+/-2.5V), Single_(+3V), Single_(+5V); t transition (s): 40n; DatasheetVersion: Rev. A; PackageVersion: Mar-05; PackageReference: RU-28; PackageDescription: 28-Pin Thin Shrink Small Outline Package, Body 9.7 x 4.4 mm, Pitch 0.65 mm; Supplier 1: Digi-Key; Supplier Part Number 1: ADG706BRU-ND; Supplier 2: Mouser; Supplier Part Number 2: 584-ADG706BRU; Packing: Tube; Mounting Technology: Surface Mount; Code_JEDEC: MO-153-AE; ComponentLink1Description: Manufacturer URL; ComponentLink1URL: http://www.analog.com/en/index.html; ComponentLink2Description: Datasheet; ComponentLink2URL: http://www.analog.com/static/imported-files/data_sheets/ADG706_707.pdf; ComponentLink3Description: Package Specification; ComponentLink3URL: http://www.analog.com/static/imported-files/packages/249854663RU_28.pdf
footprint ADI-RU-28_N (SOP, 28-Leads, Body 9.7x4.4mm, Pitch 0.65mm, IPC Medium Density)
footprint ADI-RU-28_L (SOP, 28-Leads, Body 9.7x4.4mm, Pitch 0.65mm, IPC High Density)
footprint ADI-RU-28_M (SOP, 28-Leads, Body 9.7x4.4mm, Pitch 0.65mm, IPC Low Density)
pins: 1 VDD (power) "Most Positive Power Supply Potential.", 2 NC "No Connect.", 3 NC "No Connect.", 4 S16 "Source Terminal 16. Can be an input or an output.", 5 S15 "Source Terminal 15. Can be an input or an output.", 6 S14 "Source Terminal 14. Can be an input or an output.", 7 S13 "Source Terminal 13. Can be an input or an output.", 8 S12 "Source Terminal 12. Can be an input or an output.", 9 S11 "Source Terminal 11. Can be an input or an output.", 10 S10 "Source Terminal 10. Can be an input or an output.", 11 S9 "Source Terminal 9. Can be an input or an output.", 12 GND (power) "Ground (0 V) Reference.", 13 NC "No Connect.", 14 A3 (in) "Logic Control Input.", 15 A2 (in) "Logic Control Input.", 16 A1 (in) "Logic Control Input.", 17 A0 (in) "Logic Control Input.", 18 EN (in) "Active High Digital Input. When this pin is low, the device is disabled and all switches are turned off. When this pin is high, the Ax logic inputs determine which switch is turned on.", 19 S1 "Source Terminal 1. Can be an input or an output.", 20 S2 "Source Terminal 2. Can be an input or an output.", 21 S3 "Source Terminal 3. Can be an input or an output.", 22 S4 "Source Terminal 4. Can be an input or an output.", 23 S5 "Source Terminal 5. Can be an input or an output.", 24 S6 "Source Terminal 6. Can be an input or an output.", 25 S7 "Source Terminal 7. Can be an input or an output.", 26 S8 "Source Terminal 8. Can be an input or an output.", 27 VSS (power) "Most Negative Power Supply Potential. In single-supply applications, this pin can be connected to ground.", 28 D "Drain Terminal. Can be an input or an output."

## ADG706BRU-REEL
designator U?
1.8 to 5.5 V / 2.5 V, CMOS Low-Voltage 2.5 Ohm, 16-Channel Multiplexer, -40 to 85 degC, 28-pin SOP (RU-28), Reel; Manufacturer: Analog Devices; PartNumber: ADG706BRU-REEL; Bandwidth (Hz): 25M; Max Analog Signal Range: Vss to Vdd; Ron (ohms): 2.5; Supply V Guar Performance: Dual_(+/-2.5V), Single_(+3V), Single_(+5V); t transition (s): 40n; DatasheetVersion: Rev. A; PackageVersion: Mar-05; PackageReference: RU-28; PackageDescription: 28-Pin Thin Shrink Small Outline Package, Body 9.7 x 4.4 mm, Pitch 0.65 mm; Packing: Reel; Mounting Technology: Surface Mount; Code_JEDEC: MO-153-AE; ComponentLink1Description: Manufacturer URL; ComponentLink1URL: http://www.analog.com/en/index.html; ComponentLink2Description: Datasheet; ComponentLink2URL: http://www.analog.com/static/imported-files/data_sheets/ADG706_707.pdf; ComponentLink3Description: Package Specification; ComponentLink3URL: http://www.analog.com/static/imported-files/packages/249854663RU_28.pdf
footprint ADI-RU-28_N (SOP, 28-Leads, Body 9.7x4.4mm, Pitch 0.65mm, IPC Medium Density)
footprint ADI-RU-28_L (SOP, 28-Leads, Body 9.7x4.4mm, Pitch 0.65mm, IPC High Density)
footprint ADI-RU-28_M (SOP, 28-Leads, Body 9.7x4.4mm, Pitch 0.65mm, IPC Low Density)
pins: 1 VDD (power) "Most Positive Power Supply Potential.", 2 NC "No Connect.", 3 NC "No Connect.", 4 S16 "Source Terminal 16. Can be an input or an output.", 5 S15 "Source Terminal 15. Can be an input or an output.", 6 S14 "Source Terminal 14. Can be an input or an output.", 7 S13 "Source Terminal 13. Can be an input or an output.", 8 S12 "Source Terminal 12. Can be an input or an output.", 9 S11 "Source Terminal 11. Can be an input or an output.", 10 S10 "Source Terminal 10. Can be an input or an output.", 11 S9 "Source Terminal 9. Can be an input or an output.", 12 GND (power) "Ground (0 V) Reference.", 13 NC "No Connect.", 14 A3 (in) "Logic Control Input.", 15 A2 (in) "Logic Control Input.", 16 A1 (in) "Logic Control Input.", 17 A0 (in) "Logic Control Input.", 18 EN (in) "Active High Digital Input. When this pin is low, the device is disabled and all switches are turned off. When this pin is high, the Ax logic inputs determine which switch is turned on.", 19 S1 "Source Terminal 1. Can be an input or an output.", 20 S2 "Source Terminal 2. Can be an input or an output.", 21 S3 "Source Terminal 3. Can be an input or an output.", 22 S4 "Source Terminal 4. Can be an input or an output.", 23 S5 "Source Terminal 5. Can be an input or an output.", 24 S6 "Source Terminal 6. Can be an input or an output.", 25 S7 "Source Terminal 7. Can be an input or an output.", 26 S8 "Source Terminal 8. Can be an input or an output.", 27 VSS (power) "Most Negative Power Supply Potential. In single-supply applications, this pin can be connected to ground.", 28 D "Drain Terminal. Can be an input or an output."